# Altium schematic symbol library CH376S.Schlib: 1 symbol
Pins are listed as number, name and electrical type; pins without a type are passive.

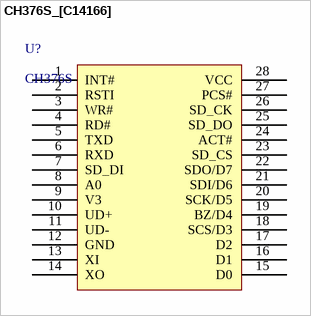
[diagram p0: symbol CH376S_[C14166]]

## CH376S_[C14166]
designator U?, comment CH376S
USB
footprint SOIC-28_300mil
pins: 1 INT#, 2 RSTI, 3 WR#, 4 RD#, 5 TXD, 6 RXD, 7 SD_DI, 8 A0, 9 V3, 10 UD+, 11 UD-, 12 GND, 13 XI, 14 XO, 15 D0, 16 D1, 17 D2, 18 SCS/D3, 19 BZ/D4, 20 SCK/D5, 21 SDI/D6, 22 SDO/D7, 23 SD_CS, 24 ACT#, 25 SD_DO, 26 SD_CK, 27 PCS#, 28 VCC